# Altium schematic symbol library MCU.SchLib: 15 symbols
Pins are listed as number, name and electrical type; pins without a type are passive.

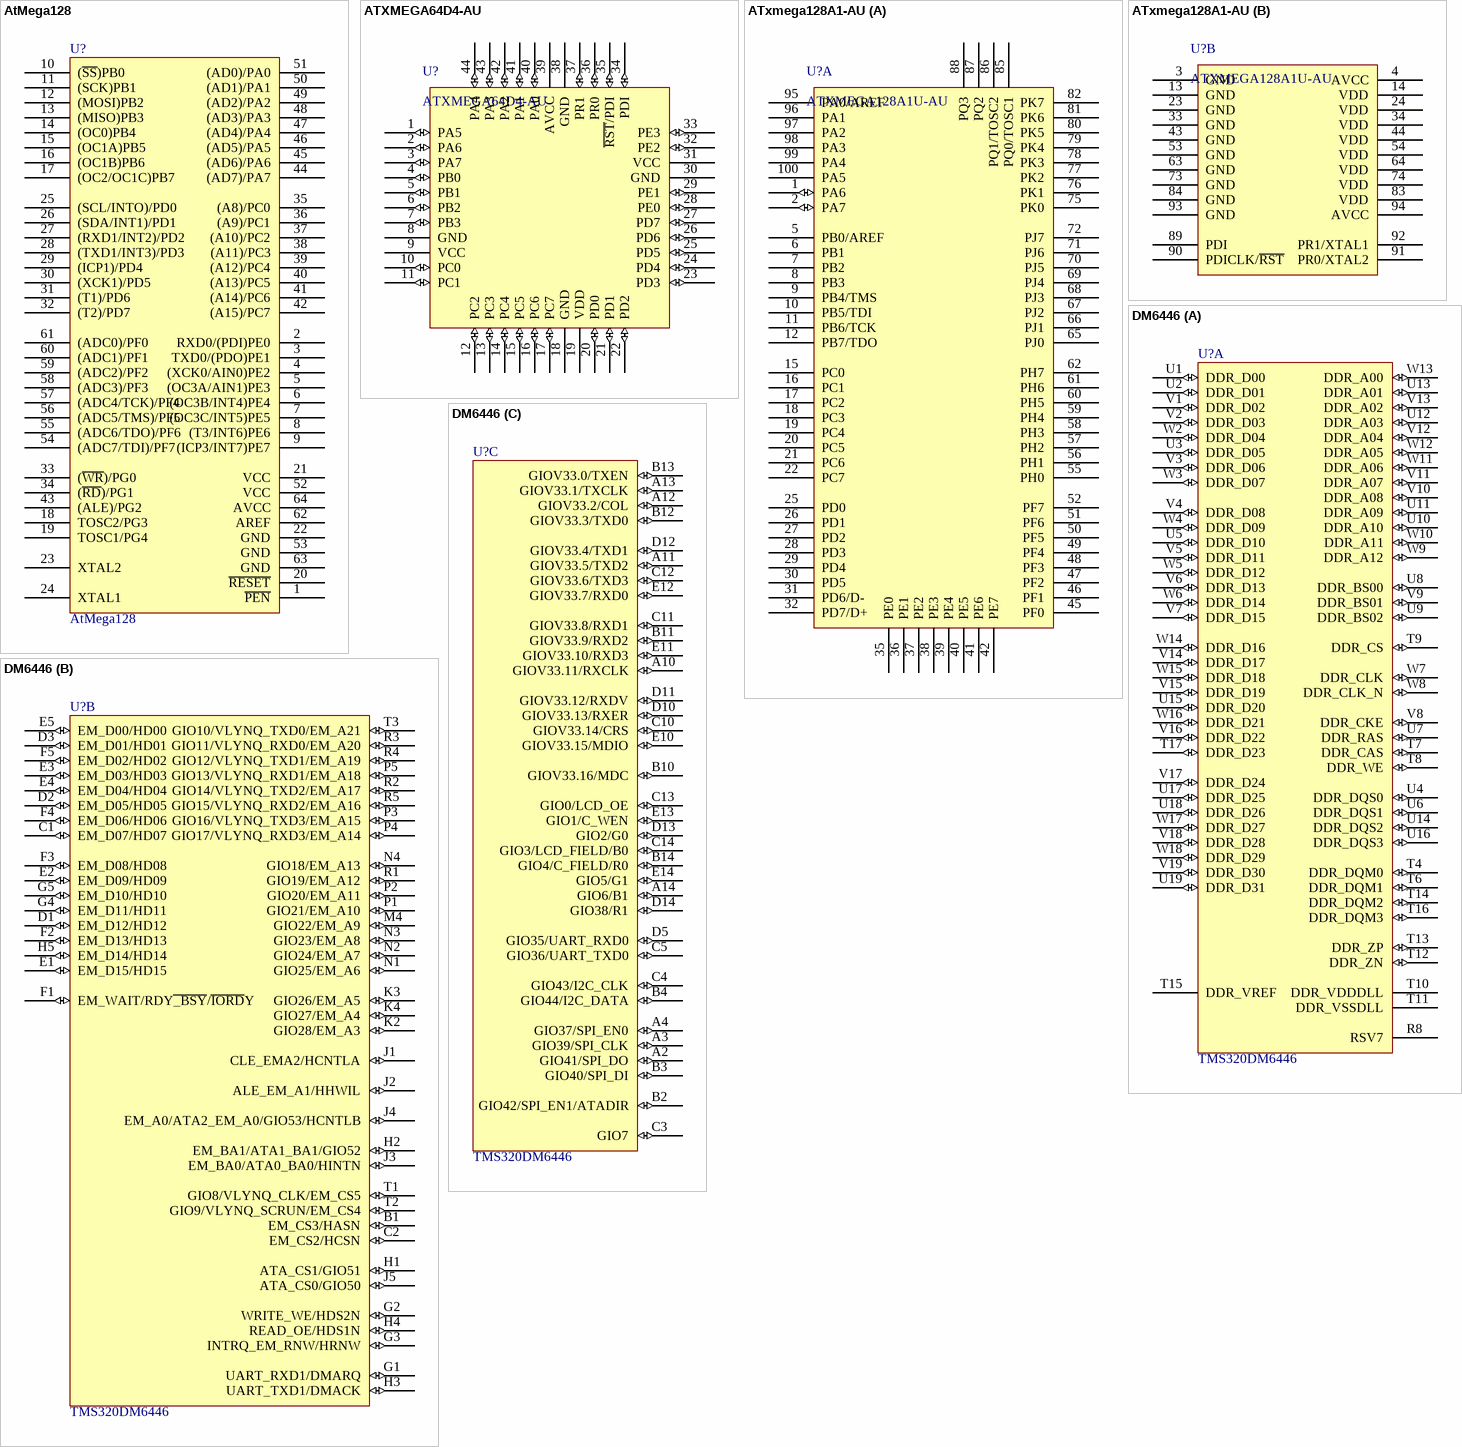
[diagram p0: symbols AtMega128 to DM6446]

## AtMega128
designator U?
8bit AVR micorcontroller
footprint 64A (Footprint not found)
pins: 1 ~{PEN}, 2 RXD0/(PDI)PE0, 3 TXD0/(PDO)PE1, 4 (XCK0/AIN0)PE2, 5 (OC3A/AIN1)PE3, 6 (OC3B/INT4)PE4, 7 (OC3C/INT5)PE5, 8 (T3/INT6)PE6, 9 (ICP3/INT7)PE7, 10 (~{SS})PB0, 11 (SCK)PB1, 12 (MOSI)PB2, 13 (MISO)PB3, 14 (OC0)PB4, 15 (OC1A)PB5, 16 (OC1B)PB6, 17 (OC2/OC1C)PB7, 18 TOSC2/PG3, 19 TOSC1/PG4, 20 ~{RESET}, 21 VCC (power), 22 GND (power), 23 XTAL2, 24 XTAL1, 25 (SCL/INTO)/PD0, 26 (SDA/INT1)/PD1, 27 (RXD1/INT2)/PD2, 28 (TXD1/INT3)/PD3, 29 (ICP1)/PD4, 30 (XCK1)/PD5, 31 (T1)/PD6, 32 (T2)/PD7, 33 (~{WR})/PG0, 34 (~{RD})/PG1, 35 (A8)/PC0, 36 (A9)/PC1, 37 (A10)/PC2, 38 (A11)/PC3, 39 (A12)/PC4, 40 (A13)/PC5, 41 (A14)/PC6, 42 (A15)/PC7, 43 (ALE)/PG2, 44 (AD7)/PA7, 45 (AD6)/PA6, 46 (AD5)/PA5, 47 (AD4)/PA4, 48 (AD3)/PA3, 49 (AD2)/PA2, 50 (AD1)/PA1, 51 (AD0)/PA0, 52 VCC (power), 53 GND (power), 54 (ADC7/TDI)/PF7, 55 (ADC6/TDO)/PF6, 56 (ADC5/TMS)/PF5, 57 (ADC4/TCK)/PF4, 58 (ADC3)/PF3, 59 (ADC2)/PF2, 60 (ADC1)/PF1, 61 (ADC0)/PF0, 62 AREF (power), 63 GND (power), 64 AVCC (power)

## ATXMEGA64D4-AU
designator U?
8-BIT AVR,ATXMEGA64
footprint TQFP80P1200X1200X120-44N (TQFP, 44-Leads, Body 12.3x12.3mm (max), Pitch 0.80mm, IPC Medium Density)
pins: 1 PA5 (io), 2 PA6 (io), 3 PA7 (io), 4 PB0 (io), 5 PB1 (io), 6 PB2 (io), 7 PB3 (io), 8 GND, 9 VCC, 10 PC0 (io), 11 PC1 (io), 12 PC2 (io), 13 PC3 (io), 14 PC4 (io), 15 PC5 (io), 16 PC6 (io), 17 PC7 (io), 18 GND, 19 VDD, 20 PD0 (io), 21 PD1 (io), 22 PD2 (io), 23 PD3 (io), 24 PD4 (io), 25 PD5 (io), 26 PD6 (io), 27 PD7 (io), 28 PE0 (io), 29 PE1 (io), 30 GND, 31 VCC, 32 PE2 (io), 33 PE3 (io), 34 PDI (io), 35 ~{RST}/PDI (io), 36 PR0 (io), 37 PR1 (io), 38 GND, 39 AVCC, 40 PA0 (io), 41 PA1 (io), 42 PA2 (io), 43 PA3 (io), 44 PA4 (io)

## ATxmega128A1-AU
designator U?, comment ATXMEGA128A1U-AU
footprint F-QFP14X14-G100/Z17N
part A pins: 1 PA6 (io), 2 PA7 (io), 5 PB0/AREF, 6 PB1, 7 PB2, 8 PB3, 9 PB4/TMS, 10 PB5/TDI, 11 PB6/TCK, 12 PB7/TDO, 15 PC0, 16 PC1, 17 PC2, 18 PC3, 19 PC4, 20 PC5, 21 PC6, 22 PC7, 25 PD0, 26 PD1, 27 PD2, 28 PD3, 29 PD4, 30 PD5, 31 PD6/D-, 32 PD7/D+, 35 PE0, 36 PE1, 37 PE2, 38 PE3, 39 PE4, 40 PE5, 41 PE6, 42 PE7, 45 PF0, 46 PF1, 47 PF2, 48 PF3, 49 PF4, 50 PF5, 51 PF6, 52 PF7, 55 PH0, 56 PH1, 57 PH2, 58 PH3, 59 PH4, 60 PH5, 61 PH6, 62 PH7, 65 PJ0, 66 PJ1, 67 PJ2, 68 PJ3, 69 PJ4, 70 PJ5, 71 PJ6, 72 PJ7, 75 PK0, 76 PK1, 77 PK2, 78 PK3, 79 PK4, 80 PK5, 81 PK6, 82 PK7, 85 PQ0/TOSC1, 86 PQ1/TOSC2, 87 PQ2, 88 PQ3, 95 PA0/AREF, 96 PA1, 97 PA2, 98 PA3, 99 PA4, 100 PA5
part B pins: 3 GND, 4 AVCC, 13 GND, 14 VDD, 23 GND, 24 VDD, 33 GND, 34 VDD, 43 GND, 44 VDD, 53 GND, 54 VDD, 63 GND, 64 VDD, 73 GND, 74 VDD, 83 VDD, 84 GND, 89 PDI, 90 PDICLK/~{RST}, 91 PR0/XTAL2, 92 PR1/XTAL1, 93 GND, 94 AVCC

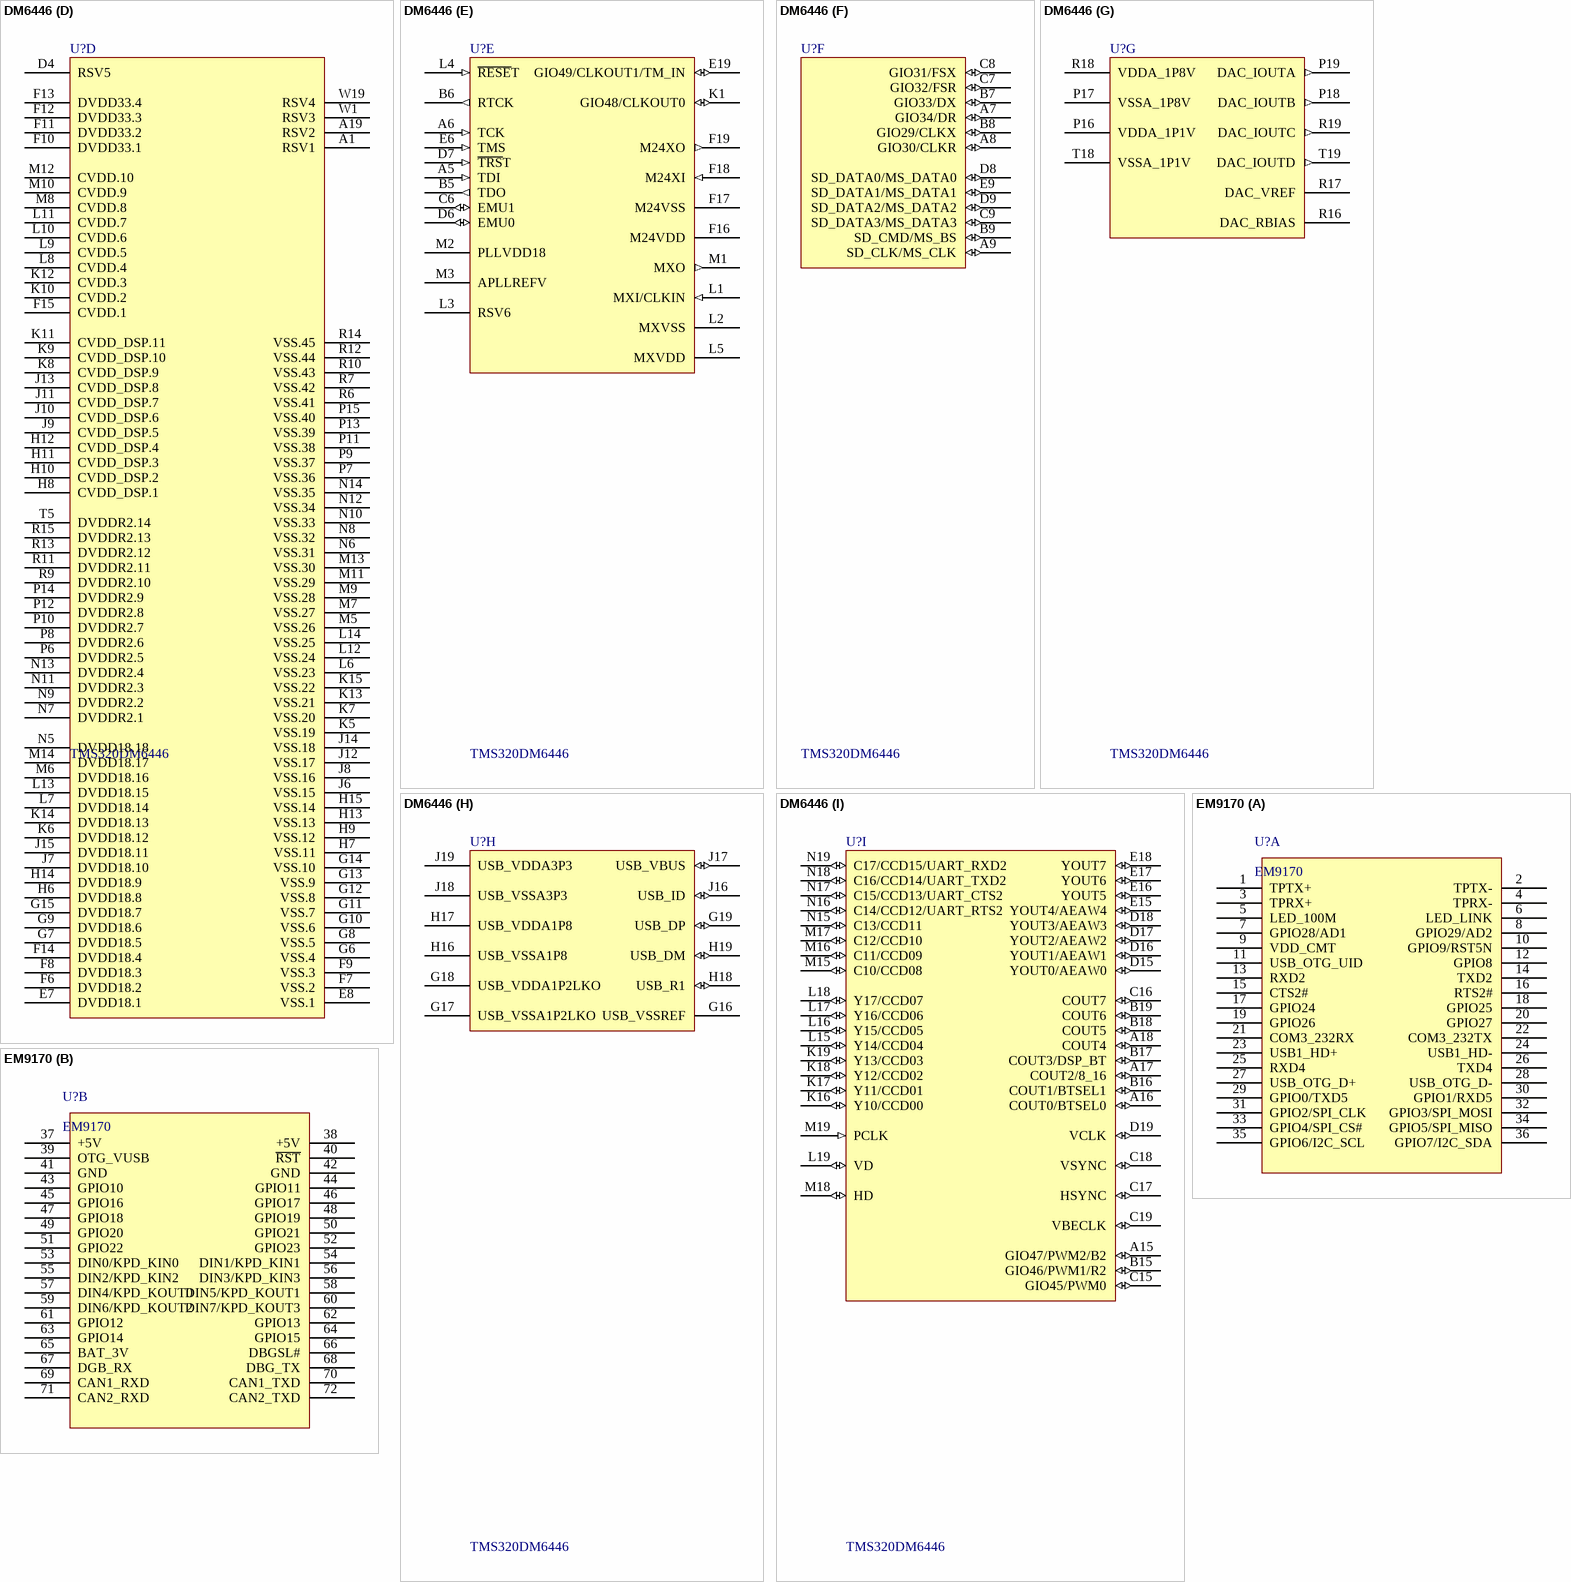
[diagram p1: symbols DM6446 to EM9170]

## DM6446
designator U?, comment value TMS320DM6446  (hidden comment: DSP+ARM)
DSP&ARM; Company: TI
footprint 361FBGA (For the TMS320DM6446)
part A pins: R8 RSV7, T4 DDR_DQM0 (io), T6 DDR_DQM1 (io), T7 DDR_CAS (io), T8 DDR_WE (io), T9 DDR_CS (io), T10 DDR_VDDDLL (power), T11 DDR_VSSDLL (power), T12 DDR_ZN (io), T13 DDR_ZP (io), T14 DDR_DQM2 (io), T15 DDR_VREF (power), T16 DDR_DQM3 (io), T17 DDR_D23 (io), U1 DDR_D00 (io), U2 DDR_D01 (io), U3 DDR_D05 (io), U4 DDR_DQS0 (io), U5 DDR_D10 (io), U6 DDR_DQS1 (io), U7 DDR_RAS (io), U8 DDR_BS00 (io), U9 DDR_BS02 (io), U10 DDR_A10 (io), U11 DDR_A09 (io), U12 DDR_A03 (io), U13 DDR_A01 (io), U14 DDR_DQS2 (io), U15 DDR_D20 (io), U16 DDR_DQS3 (io), U17 DDR_D25 (io), U18 DDR_D26 (io), U19 DDR_D31 (io), V1 DDR_D02 (io), V2 DDR_D03 (io), V3 DDR_D06 (io), V4 DDR_D08 (io), V5 DDR_D11 (io), V6 DDR_D13 (io), V7 DDR_D15 (io), V8 DDR_CKE (io), V9 DDR_BS01 (io), V10 DDR_A08 (io), V11 DDR_A07 (io), V12 DDR_A04 (io), V13 DDR_A02 (io), V14 DDR_D17 (io), V15 DDR_D19 (io), V16 DDR_D22 (io), V17 DDR_D24 (io), V18 DDR_D28 (io), V19 DDR_D30 (io), W2 DDR_D04 (io), W3 DDR_D07 (io), W4 DDR_D09 (io), W5 DDR_D12 (io), W6 DDR_D14 (io), W7 DDR_CLK (io), W8 DDR_CLK_N (io), W9 DDR_A12 (io), W10 DDR_A11 (io), W11 DDR_A06 (io), W12 DDR_A05 (io), W13 DDR_A00 (io), W14 DDR_D16 (io), W15 DDR_D18 (io), W16 DDR_D21 (io), W17 DDR_D27 (io), W18 DDR_D29 (io)
part B pins: B1 EM_CS3/HASN (io), C1 EM_D07/HD07 (io), C2 EM_CS2/HCSN (io), D1 EM_D12/HD12 (io), D2 EM_D05/HD05 (io), D3 EM_D01/HD01 (io), E1 EM_D15/HD15 (io), E2 EM_D09/HD09 (io), E3 EM_D03/HD03 (io), E4 EM_D04/HD04 (io), E5 EM_D00/HD00 (io), F1 EM_WAIT/RDY~{_BSY}/~{IORD}Y (io), F2 EM_D13/HD13 (io), F3 EM_D08/HD08 (io), F4 EM_D06/HD06 (io), F5 EM_D02/HD02 (io), G1 UART_RXD1/DMARQ (io), G2 WRITE_WE/HDS2N (io), G3 INTRQ_EM_RNW/HRNW (io), G4 EM_D11/HD11 (io), G5 EM_D10/HD10 (io), H1 ATA_CS1/GIO51 (io), H2 EM_BA1/ATA1_BA1/GIO52 (io), H3 UART_TXD1/DMACK (io), H4 READ_OE/HDS1N (io), H5 EM_D14/HD14 (io), J1 CLE_EMA2/HCNTLA (io), J2 ALE_EM_A1/HHWIL (io), J3 EM_BA0/ATA0_BA0/HINTN (io), J4 EM_A0/ATA2_EM_A0/GIO53/HCNTLB (io), J5 ATA_CS0/GIO50 (io), K2 GIO28/EM_A3 (io), K3 GIO26/EM_A5 (io), K4 GIO27/EM_A4 (io), M4 GIO22/EM_A9 (io), N1 GIO25/EM_A6 (io), N2 GIO24/EM_A7 (io), N3 GIO23/EM_A8 (io), N4 GIO18/EM_A13 (io), P1 GIO21/EM_A10 (io), P2 GIO20/EM_A11 (io), P3 GIO16/VLYNQ_TXD3/EM_A15 (io), P4 GIO17/VLYNQ_RXD3/EM_A14 (io), P5 GIO13/VLYNQ_RXD1/EM_A18 (io), R1 GIO19/EM_A12 (io), R2 GIO14/VLYNQ_TXD2/EM_A17 (io), R3 GIO11/VLYNQ_RXD0/EM_A20 (io), R4 GIO12/VLYNQ_TXD1/EM_A19 (io), R5 GIO15/VLYNQ_RXD2/EM_A16 (io), T1 GIO8/VLYNQ_CLK/EM_CS5 (io), T2 GIO9/VLYNQ_SCRUN/EM_CS4 (io), T3 GIO10/VLYNQ_TXD0/EM_A21 (io)
part C pins: A2 GIO41/SPI_DO (io), A3 GIO39/SPI_CLK (io), A4 GIO37/SPI_EN0 (io), A10 GIOV33.11/RXCLK (io), A11 GIOV33.5/TXD2 (io), A12 GIOV33.2/COL (io), A13 GIOV33.1/TXCLK (io), A14 GIO6/B1 (io), B2 GIO42/SPI_EN1/ATADIR (io), B3 GIO40/SPI_DI (io), B4 GIO44/I2C_DATA (io), B10 GIOV33.16/MDC (io), B11 GIOV33.9/RXD2 (io), B12 GIOV33.3/TXD0 (io), B13 GIOV33.0/TXEN (io), B14 GIO4/C_FIELD/R0 (io), C3 GIO7 (io), C4 GIO43/I2C_CLK (io), C5 GIO36/UART_TXD0 (io), C10 GIOV33.14/CRS (io), C11 GIOV33.8/RXD1 (io), C12 GIOV33.6/TXD3 (io), C13 GIO0/LCD_OE (io), C14 GIO3/LCD_FIELD/B0 (io), D5 GIO35/UART_RXD0 (io), D10 GIOV33.13/RXER (io), D11 GIOV33.12/RXDV (io), D12 GIOV33.4/TXD1 (io), D13 GIO2/G0 (io), D14 GIO38/R1 (io), E10 GIOV33.15/MDIO (io), E11 GIOV33.10/RXD3 (io), E12 GIOV33.7/RXD0 (io), E13 GIO1/C_WEN (io), E14 GIO5/G1 (io)
part D pins: A1 RSV1, A19 RSV2, D4 RSV5, E7 DVDD18.1 (power), E8 VSS.1 (power), F6 DVDD18.2 (power), F7 VSS.2 (power), F8 DVDD18.3 (power), F9 VSS.3 (power), F10 DVDD33.1 (power), F11 DVDD33.2 (power), F12 DVDD33.3 (power), F13 DVDD33.4 (power), F14 DVDD18.4 (power), F15 CVDD.1 (power), G6 VSS.4 (power), G7 DVDD18.5 (power), G8 VSS.5 (power), G9 DVDD18.6 (power), G10 VSS.6 (power), G11 VSS.7 (power), G12 VSS.8 (power), G13 VSS.9 (power), G14 VSS.10 (power), G15 DVDD18.7 (power), H6 DVDD18.8 (power), H7 VSS.11 (power), H8 CVDD_DSP.1 (power), H9 VSS.12 (power), H10 CVDD_DSP.2 (power), H11 CVDD_DSP.3 (power), H12 CVDD_DSP.4 (power), H13 VSS.13 (power), H14 DVDD18.9 (power), H15 VSS.14 (power), J6 VSS.15 (power), J7 DVDD18.10 (power), J8 VSS.16 (power), J9 CVDD_DSP.5 (power), J10 CVDD_DSP.6 (power), J11 CVDD_DSP.7 (power), J12 VSS.17 (power), J13 CVDD_DSP.8 (power), J14 VSS.18 (power), J15 DVDD18.11 (power), K5 VSS.19 (power), K6 DVDD18.12 (power), K7 VSS.20 (power), K8 CVDD_DSP.9 (power), K9 CVDD_DSP.10 (power), K10 CVDD.2 (power), K11 CVDD_DSP.11 (power), K12 CVDD.3 (power), K13 VSS.21 (power), K14 DVDD18.13 (power), K15 VSS.22 (power), L6 VSS.23 (power), L7 DVDD18.14 (power), L8 CVDD.4 (power), L9 CVDD.5 (power), L10 CVDD.6 (power), L11 CVDD.7 (power), L12 VSS.24 (power), L13 DVDD18.15 (power), L14 VSS.25 (power), M5 VSS.26 (power), M6 DVDD18.16 (power), M7 VSS.27 (power), M8 CVDD.8 (power), M9 VSS.28 (power), M10 CVDD.9 (power), M11 VSS.29 (power), M12 CVDD.10 (power), M13 VSS.30 (power), M14 DVDD18.17 (power), N5 DVDD18.18 (power), N6 VSS.31 (power), N7 DVDDR2.1 (power), N8 VSS.32 (power), N9 DVDDR2.2 (power), N10 VSS.33 (power), N11 DVDDR2.3 (power), N12 VSS.34 (power), N13 DVDDR2.4 (power), N14 VSS.35 (power), P6 DVDDR2.5 (power), P7 VSS.36 (power), P8 DVDDR2.6 (power), P9 VSS.37 (power), P10 DVDDR2.7 (power), P11 VSS.38 (power), P12 DVDDR2.8 (power), P13 VSS.39 (power), P14 DVDDR2.9 (power), P15 VSS.40 (power), R6 VSS.41 (power), R7 VSS.42 (power), R9 DVDDR2.10 (power), R10 VSS.43 (power), R11 DVDDR2.11 (power), R12 VSS.44 (power), R13 DVDDR2.12 (power), R14 VSS.45 (power), R15 DVDDR2.13 (power), T5 DVDDR2.14 (power), W1 RSV3, W19 RSV4
part E pins: A5 TDI (in), A6 TCK (in), B5 TDO (out), B6 RTCK (out), C6 EMU1 (io), D6 EMU0 (io), D7 ~{TRS}T (in), E6 TMS (in), E19 GIO49/CLKOUT1/TM_IN (io), F16 M24VDD (power), F17 M24VSS (power), F18 M24XI (in), F19 M24XO (out), K1 GIO48/CLKOUT0 (io), L1 MXI/CLKIN (in), L2 MXVSS (power), L3 RSV6, L4 ~{RESE}T (in), L5 MXVDD (power), M1 MXO (out), M2 PLLVDD18 (power), M3 APLLREFV (power)
part F pins: A7 GIO34/DR (io), A8 GIO30/CLKR (io), A9 SD_CLK/MS_CLK (io), B7 GIO33/DX (io), B8 GIO29/CLKX (io), B9 SD_CMD/MS_BS (io), C7 GIO32/FSR (io), C8 GIO31/FSX (io), C9 SD_DATA3/MS_DATA3 (io), D8 SD_DATA0/MS_DATA0 (io), D9 SD_DATA2/MS_DATA2 (io), E9 SD_DATA1/MS_DATA1 (io)
part G pins: P16 VDDA_1P1V (power), P17 VSSA_1P8V (power), P18 DAC_IOUTB (out), P19 DAC_IOUTA (out), R16 DAC_RBIAS (power), R17 DAC_VREF (power), R18 VDDA_1P8V (power), R19 DAC_IOUTC (out), T18 VSSA_1P1V (power), T19 DAC_IOUTD (out)
part H pins: G16 USB_VSSREF (power), G17 USB_VSSA1P2LKO (power), G18 USB_VDDA1P2LKO (power), G19 USB_DP (io), H16 USB_VSSA1P8 (power), H17 USB_VDDA1P8 (power), H18 USB_R1 (io), H19 USB_DM (io), J16 USB_ID (io), J17 USB_VBUS (io), J18 USB_VSSA3P3 (power), J19 USB_VDDA3P3 (power)
part I pins: A15 GIO47/PWM2/B2 (io), A16 COUT0/BTSEL0 (io), A17 COUT2/8_16 (io), A18 COUT4 (io), B15 GIO46/PWM1/R2 (io), B16 COUT1/BTSEL1 (io), B17 COUT3/DSP_BT (io), B18 COUT5 (io), B19 COUT6 (io), C15 GIO45/PWM0 (io), C16 COUT7 (io), C17 HSYNC (io), C18 VSYNC (io), C19 VBECLK (io), D15 YOUT0/AEAW0 (io), D16 YOUT1/AEAW1 (io), D17 YOUT2/AEAW2 (io), D18 YOUT3/AEAW3 (io), D19 VCLK (io), E15 YOUT4/AEAW4 (io), E16 YOUT5 (io), E17 YOUT6 (io), E18 YOUT7 (io), K16 Y10/CCD00 (io), K17 Y11/CCD01 (io), K18 Y12/CCD02 (io), K19 Y13/CCD03 (io), L15 Y14/CCD04 (io), L16 Y15/CCD05 (io), L17 Y16/CCD06 (io), L18 Y17/CCD07 (io), L19 VD (io), M15 C10/CCD08 (io), M16 C11/CCD09 (io), M17 C12/CCD10 (io), M18 HD (io), M19 PCLK (in), N15 C13/CCD11 (io), N16 C14/CCD12/UART_RTS2 (io), N17 C15/CCD13/UART_CTS2 (io), N18 C16/CCD14/UART_TXD2 (io), N19 C17/CCD15/UART_RXD2 (io)

## EM9170
designator U?
英创信息ARM9核心板卡
footprint 9170
part A pins: 1 TPTX+, 2 TPTX-, 3 TPRX+, 4 TPRX-, 5 LED_100M, 6 LED_LINK, 7 GPIO28/AD1, 8 GPIO29/AD2, 9 VDD_CMT, 10 GPIO9/RST5N, 11 USB_OTG_UID, 12 GPIO8, 13 RXD2, 14 TXD2, 15 CTS2#, 16 RTS2#, 17 GPIO24, 18 GPIO25, 19 GPIO26, 20 GPIO27, 21 COM3_232RX, 22 COM3_232TX, 23 USB1_HD+, 24 USB1_HD-, 25 RXD4, 26 TXD4, 27 USB_OTG_D+, 28 USB_OTG_D-, 29 GPIO0/TXD5, 30 GPIO1/RXD5, 31 GPIO2/SPI_CLK, 32 GPIO3/SPI_MOSI, 33 GPIO4/SPI_CS#, 34 GPIO5/SPI_MISO, 35 GPIO6/I2C_SCL, 36 GPIO7/I2C_SDA
part B pins: 37 +5V, 38 +5V, 39 OTG_VUSB, 40 ~{RST}, 41 GND, 42 GND, 43 GPIO10, 44 GPIO11, 45 GPIO16, 46 GPIO17, 47 GPIO18, 48 GPIO19, 49 GPIO20, 50 GPIO21, 51 GPIO22, 52 GPIO23, 53 DIN0/KPD_KIN0, 54 DIN1/KPD_KIN1, 55 DIN2/KPD_KIN2, 56 DIN3/KPD_KIN3, 57 DIN4/KPD_KOUT0, 58 DIN5/KPD_KOUT1, 59 DIN6/KPD_KOUT2, 60 DIN7/KPD_KOUT3, 61 GPIO12, 62 GPIO13, 63 GPIO14, 64 GPIO15, 65 BAT_3V, 66 DBGSL#, 67 DGB_RX, 68 DBG_TX, 69 CAN1_RXD, 70 CAN1_TXD, 71 CAN2_RXD, 72 CAN2_TXD

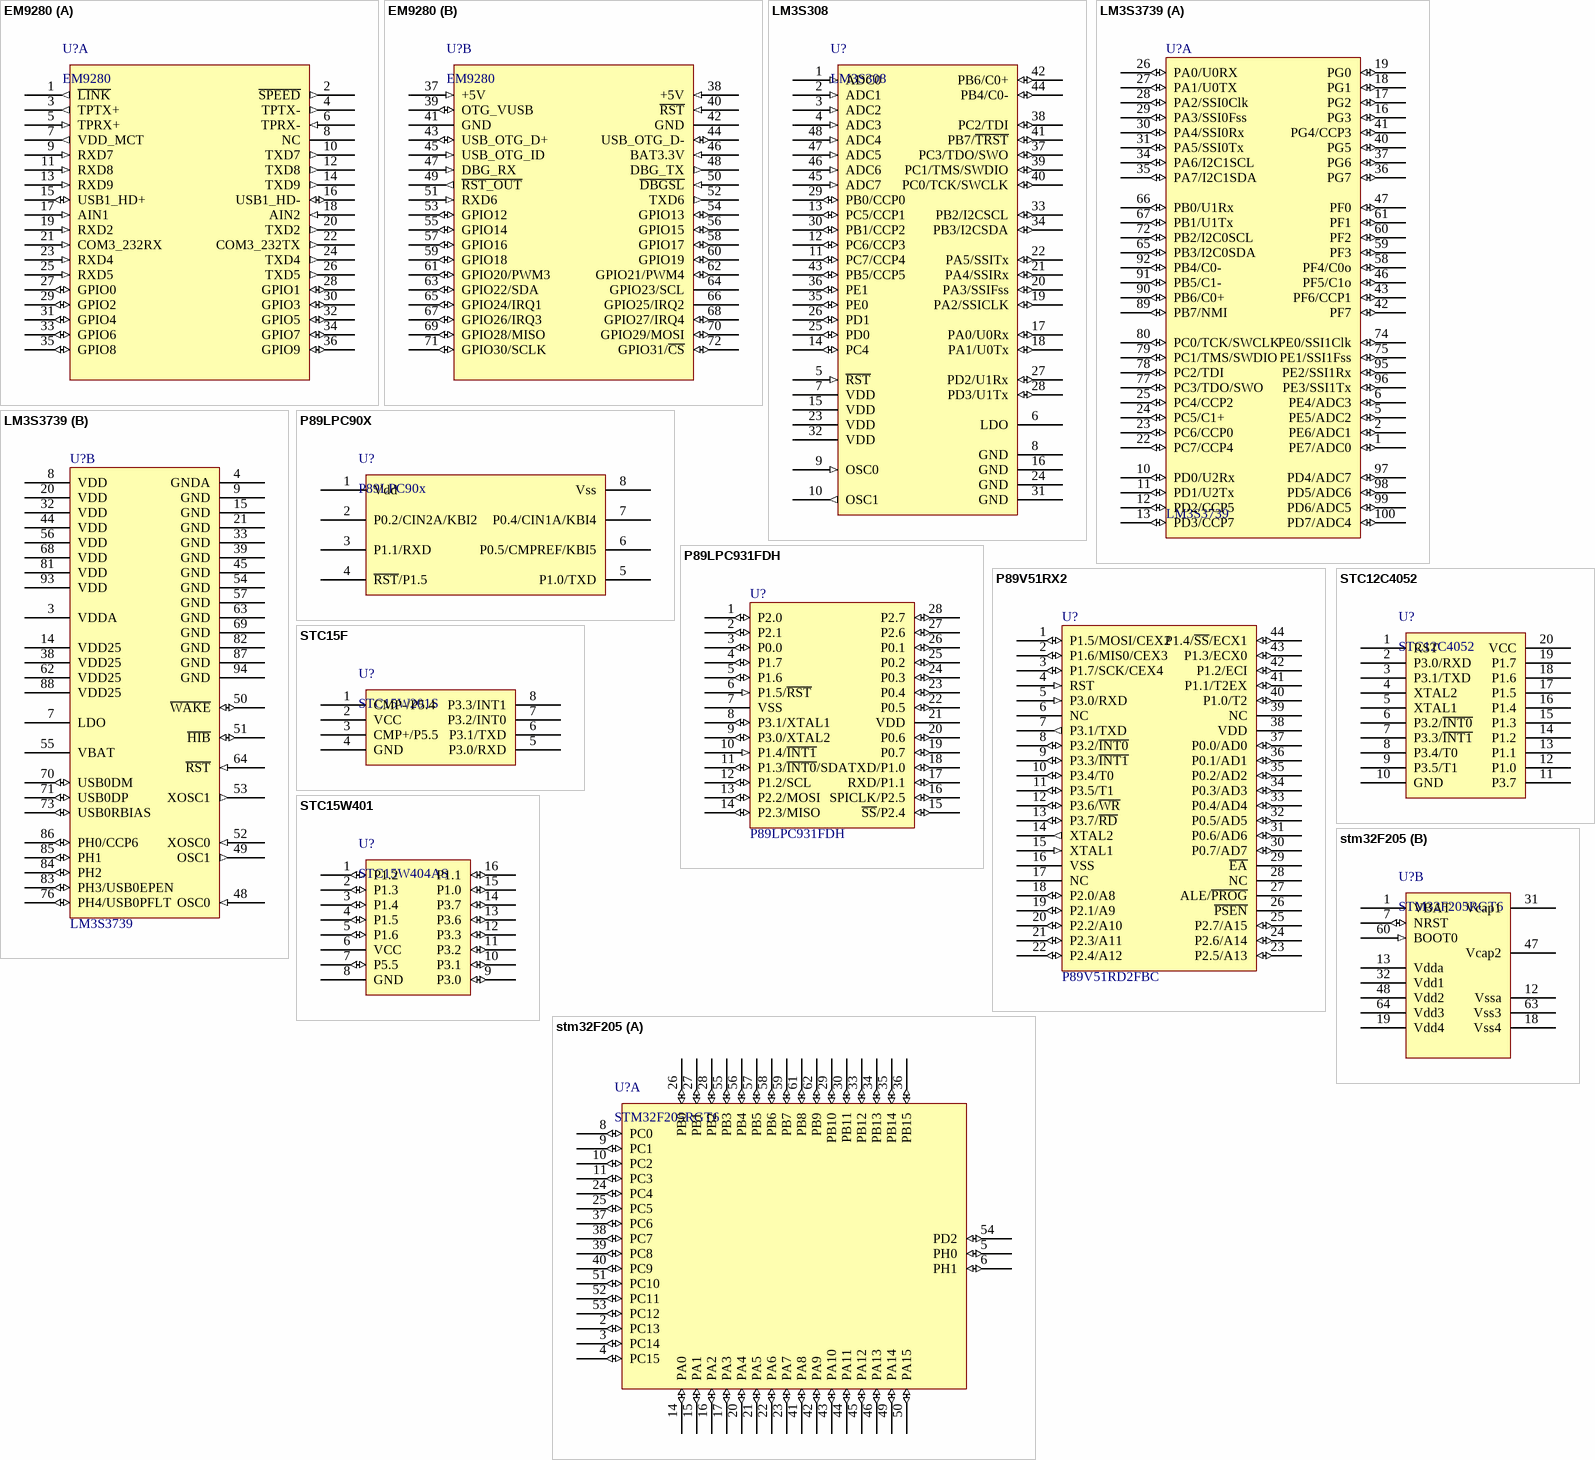
[diagram p2: symbols EM9280 to stm32F205]

## EM9280
designator U?
英创信息ARM9核心板卡
footprint 9170
part A pins: 1 ~{LINK} (out), 2 ~{SPEED} (out), 3 TPTX+ (out), 4 TPTX- (out), 5 TPRX+ (in), 6 TPRX- (in), 7 VDD_MCT (out), 8 NC, 9 RXD7 (in), 10 TXD7 (out), 11 RXD8 (in), 12 TXD8 (out), 13 RXD9 (in), 14 TXD9 (out), 15 USB1_HD+ (io), 16 USB1_HD- (io), 17 AIN1 (in), 18 AIN2 (in), 19 RXD2 (in), 20 TXD2 (out), 21 COM3_232RX (in), 22 COM3_232TX (out), 23 RXD4 (in), 24 TXD4 (out), 25 RXD5 (in), 26 TXD5 (out), 27 GPIO0 (io), 28 GPIO1 (io), 29 GPIO2 (io), 30 GPIO3 (io), 31 GPIO4 (io), 32 GPIO5 (io), 33 GPIO6 (io), 34 GPIO7 (io), 35 GPIO8 (io), 36 GPIO9 (io)
part B pins: 37 +5V (in), 38 +5V (in), 39 OTG_VUSB (io), 40 ~{RST} (in), 41 GND, 42 GND, 43 USB_OTG_D+ (io), 44 USB_OTG_D- (io), 45 USB_OTG_ID (in), 46 BAT3.3V (in), 47 DBG_RX (in), 48 DBG_TX (out), 49 ~{RST_OUT} (out), 50 ~{DBGSL} (in), 51 RXD6 (in), 52 TXD6 (out), 53 GPIO12 (io), 54 GPIO13 (io), 55 GPIO14 (io), 56 GPIO15 (io), 57 GPIO16 (io), 58 GPIO17 (io), 59 GPIO18 (io), 60 GPIO19 (io), 61 GPIO20/PWM3 (io), 62 GPIO21/PWM4 (io), 63 GPIO22/SDA (io), 64 GPIO23/SCL, 65 GPIO24/IRQ1 (io), 66 GPIO25/IRQ2, 67 GPIO26/IRQ3 (io), 68 GPIO27/IRQ4 (io), 69 GPIO28/MISO (io), 70 GPIO29/MOSI (io), 71 GPIO30/SCLK (io), 72 GPIO31/~{CS} (io)

## LM3S308
designator U?
CORTEX M3 CORE
footprint LQFP48 (For LM3S308)
pins: 1 ADC0 (in), 2 ADC1 (in), 3 ADC2 (in), 4 ADC3 (in), 5 ~{RST} (in), 6 LDO (power), 7 VDD (power), 8 GND (power), 9 OSC0 (in), 10 OSC1 (out), 11 PC7/CCP4 (io), 12 PC6/CCP3 (io), 13 PC5/CCP1 (io), 14 PC4 (io), 15 VDD (power), 16 GND (power), 17 PA0/U0Rx (io), 18 PA1/U0Tx (io), 19 PA2/SSICLK (io), 20 PA3/SSIFss (io), 21 PA4/SSIRx (io), 22 PA5/SSITx (io), 23 VDD (power), 24 GND (power), 25 PD0 (io), 26 PD1 (io), 27 PD2/U1Rx (io), 28 PD3/U1Tx (io), 29 PB0/CCP0 (io), 30 PB1/CCP2 (io), 31 GND (power), 32 VDD (power), 33 PB2/I2CSCL (io), 34 PB3/I2CSDA (io), 35 PE0 (io), 36 PE1 (io), 37 PC3/TDO/SWO (io), 38 PC2/TDI (io), 39 PC1/TMS/SWDIO (io), 40 PC0/TCK/SWCLK (io), 41 PB7/~{TRST} (io), 42 PB6/C0+ (io), 43 PB5/CCP5 (io), 44 PB4/C0- (io), 45 ADC7 (in), 46 ADC6 (in), 47 ADC5 (in), 48 ADC4 (in)

## LM3S3739
designator U?
CORTEX M3 CORE ARM; Company: Luminary
footprint LQFP100 (For LM3S3739)
part A pins: 1 PE7/ADC0 (io), 2 PE6/ADC1 (io), 5 PE5/ADC2 (io), 6 PE4/ADC3 (io), 10 PD0/U2Rx (io), 11 PD1/U2Tx (io), 12 PD2/CCP5 (io), 13 PD3/CCP7 (io), 16 PG3 (io), 17 PG2 (io), 18 PG1 (io), 19 PG0 (io), 22 PC7/CCP4 (io), 23 PC6/CCP0 (io), 24 PC5/C1+ (io), 25 PC4/CCP2 (io), 26 PA0/U0RX (io), 27 PA1/U0TX (io), 28 PA2/SSI0Clk (io), 29 PA3/SSI0Fss (io), 30 PA4/SSI0Rx (io), 31 PA5/SSI0Tx (io), 34 PA6/I2C1SCL (io), 35 PA7/I2C1SDA (io), 36 PG7 (io), 37 PG6 (io), 40 PG5 (io), 41 PG4/CCP3 (io), 42 PF7 (io), 43 PF6/CCP1 (io), 46 PF5/C1o (io), 47 PF0 (io), 58 PF4/C0o (io), 59 PF3 (io), 60 PF2 (io), 61 PF1 (io), 65 PB3/I2C0SDA (io), 66 PB0/U1Rx (io), 67 PB1/U1Tx (io), 72 PB2/I2C0SCL (io), 74 PE0/SSI1Clk (io), 75 PE1/SSI1Fss (io), 77 PC3/TDO/SWO (io), 78 PC2/TDI (io), 79 PC1/TMS/SWDIO (io), 80 PC0/TCK/SWCLK (io), 89 PB7/NMI (io), 90 PB6/C0+ (io), 91 PB5/C1- (io), 92 PB4/C0- (io), 95 PE2/SSI1Rx (io), 96 PE3/SSI1Tx (io), 97 PD4/ADC7 (io), 98 PD5/ADC6 (io), 99 PD6/ADC5 (io), 100 PD7/ADC4 (io)
part B pins: 3 VDDA (power), 4 GNDA (power), 7 LDO (power), 8 VDD (power), 9 GND (power), 14 VDD25 (power), 15 GND (power), 20 VDD (power), 21 GND (power), 32 VDD (power), 33 GND (power), 38 VDD25 (power), 39 GND (power), 44 VDD (power), 45 GND (power), 48 OSC0 (in), 49 OSC1 (out), 50 ~{WAKE} (io), 51 ~{HIB} (io), 52 XOSC0 (in), 53 XOSC1 (out), 54 GND (power), 55 VBAT (power), 56 VDD (power), 57 GND (power), 62 VDD25 (power), 63 GND (power), 64 ~{RST} (in), 68 VDD (power), 69 GND (power), 70 USB0DM (io), 71 USB0DP (io), 73 USB0RBIAS (io), 76 PH4/USB0PFLT (io), 81 VDD (power), 82 GND (power), 83 PH3/USB0EPEN (io), 84 PH2 (io), 85 PH1 (io), 86 PH0/CCP6 (io), 87 GND (power), 88 VDD25 (power), 93 VDD (power), 94 GND (power)

## P89LPC90X
designator U?, comment P89LPC90x
8-BIT MICROCONTROLLER 1K FLASH 128B RAM
footprint SO-G8 (Small Outline; 8 Leads; Body Width 3.9 mm; Pitch 1.27 mm)
pins: 1 Vdd, 2 P0.2/CIN2A/KBI2, 3 P1.1/RXD, 4 ~{RST}/P1.5, 5 P1.0/TXD, 6 P0.5/CMPREF/KBI5, 7 P0.4/CIN1A/KBI4, 8 Vss

## P89LPC931FDH
designator U?
8 BIT 8051 CORE; Value: P89LPC931FDH
footprint SSOP28
pins: 1 P2.0 (io), 2 P2.1 (io), 3 P0.0 (io), 4 P1.7 (io), 5 P1.6 (io), 6 P1.5/~{RST} (in), 7 VSS (power), 8 P3.1/XTAL1 (io), 9 P3.0/XTAL2 (io), 10 P1.4/~{INT1} (in), 11 P1.3/~{INT0}/SDA (io), 12 P1.2/SCL (io), 13 P2.2/MOSI (io), 14 P2.3/MISO (io), 15 ~{SS}/P2.4 (io), 16 SPICLK/P2.5 (io), 17 RXD/P1.1 (io), 18 TXD/P1.0 (io), 19 P0.7 (io), 20 P0.6 (io), 21 VDD (power), 22 P0.5 (io), 23 P0.4 (io), 24 P0.3 (io), 25 P0.2 (io), 26 P0.1 (io), 27 P2.6 (io), 28 P2.7 (io)

## P89V51RX2
designator U?, comment P89V51RD2FBC
8 BIT 8051
footprint TQFP44 (For SOT376-1 NXP)
pins: 1 P1.5/MOSI/CEX2 (io), 2 P1.6/MIS0/CEX3 (io), 3 P1.7/SCK/CEX4 (io), 4 RST (in), 5 P3.0/RXD (in), 6 NC, 7 P3.1/TXD (out), 8 P3.2/~{INT0} (io), 9 P3.3/~{INT1} (io), 10 P3.4/T0 (io), 11 P3.5/T1 (io), 12 P3.6/~{WR} (io), 13 P3.7/~{RD} (io), 14 XTAL2 (out), 15 XTAL1 (in), 16 VSS (power), 17 NC, 18 P2.0/A8 (io), 19 P2.1/A9 (io), 20 P2.2/A10 (io), 21 P2.3/A11 (io), 22 P2.4/A12 (io), 23 P2.5/A13 (io), 24 P2.6/A14 (io), 25 P2.7/A15 (io), 26 ~{PSEN}, 27 ALE/~{PROG}, 28 NC, 29 ~{EA}, 30 P0.7/AD7 (io), 31 P0.6/AD6 (io), 32 P0.5/AD5 (io), 33 P0.4/AD4 (io), 34 P0.3/AD3 (io), 35 P0.2/AD2 (io), 36 P0.1/AD1 (io), 37 P0.0/AD0 (io), 38 VDD (power), 39 NC, 40 P1.0/T2 (io), 41 P1.1/T2EX (io), 42 P1.2/ECI (io), 43 P1.3/ECX0 (io), 44 P1.4/~{SS}/ECX1 (io)

## STC12C4052
designator U?
8051 MCU
footprint SOIC127P1030-20L (SOIC, 20-Leads, Body 12.8x7.5mm, Pitch 1.27mm, IPC High Density)
pins: 1 RST, 2 P3.0/RXD, 3 P3.1/TXD, 4 XTAL2, 5 XTAL1, 6 P3.2/~{INT0}, 7 P3.3/~{INT1}, 8 P3.4/T0, 9 P3.5/T1, 10 GND, 11 P3.7, 12 P1.0, 13 P1.1, 14 P1.2, 15 P1.3, 16 P1.4, 17 P1.5, 18 P1.6, 19 P1.7, 20 VCC

## STC15F
designator U?, comment STC15W201S
单片机
footprint SOIC127P600-8L (SOIC, 8-Leads, Body 4.9x3.9mm, Pitch 1.27mm, IPC High Density)
pins: 1 CMP-/P5.4, 2 VCC, 3 CMP+/P5.5, 4 GND, 5 P3.0/RXD, 6 P3.1/TXD, 7 P3.2/INT0, 8 P3.3/INT1

## STC15W401
designator U?, comment STC15W404AS
单片机
footprint SO-G16 (Small Outline; 16 Leads; Body Width 3.9 mm; Pitch 1.27 mm)
pins: 1 P1.2 (io), 2 P1.3 (io), 3 P1.4 (io), 4 P1.5 (io), 5 P1.6 (io), 6 VCC, 7 P5.5 (io), 8 GND, 9 P3.0 (io), 10 P3.1 (io), 11 P3.2 (io), 12 P3.3 (io), 13 P3.6 (io), 14 P3.7 (io), 15 P1.0 (io), 16 P1.1 (io)

## stm32F205
designator U?, comment STM32F205RGT6
单片机
footprint SQFP50P1200X1200-64L (Shrink QFP, 64-Leads, Body 10x10mm, Pitch 0.5mm, IPC High Density)
part A pins: 2 PC13 (io), 3 PC14 (io), 4 PC15 (io), 5 PH0 (io), 6 PH1 (io), 8 PC0 (io), 9 PC1 (io), 10 PC2 (io), 11 PC3 (io), 14 PA0 (io), 15 PA1 (io), 16 PA2 (io), 17 PA3 (io), 20 PA4 (io), 21 PA5 (io), 22 PA6 (io), 23 PA7 (io), 24 PC4 (io), 25 PC5 (io), 26 PB0 (io), 27 PB1 (io), 28 PB2 (io), 29 PB10 (io), 30 PB11 (io), 33 PB12 (io), 34 PB13 (io), 35 PB14 (io), 36 PB15 (io), 37 PC6 (io), 38 PC7 (io), 39 PC8 (io), 40 PC9 (io), 41 PA8 (io), 42 PA9 (io), 43 PA10 (io), 44 PA11 (io), 45 PA12 (io), 46 PA13 (io), 49 PA14 (io), 50 PA15 (io), 51 PC10 (io), 52 PC11 (io), 53 PC12 (io), 54 PD2 (io), 55 PB3 (io), 56 PB4 (io), 57 PB5 (io), 58 PB6 (io), 59 PB7 (io), 61 PB8 (io), 62 PB9 (io)
part B pins: 1 VBAT, 7 NRST  (io), 12 Vssa, 13 Vdda, 18 Vss4, 19 Vdd4, 31 Vcap1, 32 Vdd1, 47 Vcap2, 48 Vdd2, 60 BOOT0 (in), 63 Vss3, 64 Vdd3